# Altium schematic symbol library TCAN1044AEVDRQ1.SchLib: 1 symbol
Pins are listed as number, name and electrical type; pins without a type are passive.

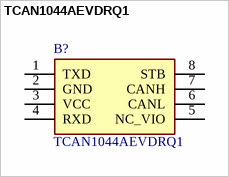
[diagram p0: symbol TCAN1044AEVDRQ1]

## TCAN1044AEVDRQ1
designator B?
Manufacturer_Name: Texas Instruments; Geometry.Height: 1.75mm; Mouser Part Number: 595-TCAN1044AEVDRQ1; Mouser Price/Stock: https://www.mouser.co.uk/ProductDetail/Texas-Instruments/TCAN1044AEVDRQ1?qs=Rp5uXu7WBW%2FghOnpfmkUbA%3D%3D; Manufacturer_Part_Number: TCAN1044AEVDRQ1; Description: TCAN1044AEVDRQ1; Datasheet Link: https://www.ti.com/general/docs/suppproductinfo.tsp?distId=10&gotoUrl=https%3A%2F%2Fwww.ti.com%2Flit%2Fgpn%2Ftcan1044-q1
footprint SOIC127P600X175-8N
pins: 1 TXD, 2 GND, 3 VCC, 4 RXD, 5 NC_VIO, 6 CANL, 7 CANH, 8 STB